# EAGLE library part ENC28J60 (library mylib)
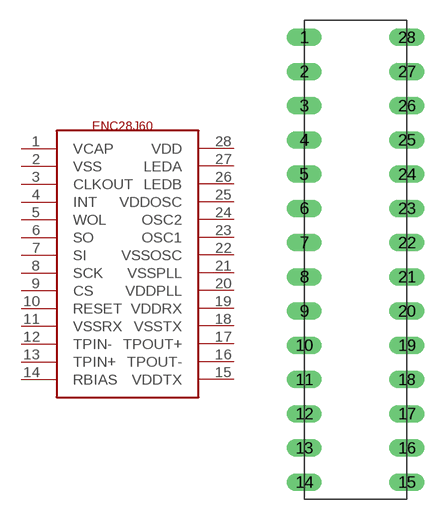
[diagram p1: symbol with the pads of ENJ28J60; footprint ENJ28J60]

Designator prefix -

## ENC28J60  [ENJ28J60]
1  VCAP
2  VSS
3  CLKOUT
4  INT
5  WOL
6  SO
7  SI
8  SCK
9  CS
10  RESET
11  VSSRX
12  TPIN-
13  TPIN+
14  RBIAS
15  VDDTX
16  TPOUT-
17  TPOUT+
18  VSSTX
19  VDDRX
20  VDDPLL
21  VSSPLL
22  VSSOSC
23  OSC1
24  OSC2
25  VDDOSC
26  LEDB
27  LEDA
28  VDD

## Footprint ENJ28J60 (pad centres in mm)
drill 0.8 long: 1 -5.08,8.89; 2 -5.08,6.35; 3 -5.08,3.81; 4 -5.08,1.27; 5 -5.08,-1.27; 6 -5.08,-3.81; 7 -5.08,-6.35; 8 -5.08,-8.89; 9 -5.08,-11.43; 10 -5.08,-13.97; 11 -5.08,-16.51; 12 -5.08,-19.05; 13 -5.08,-21.59; 14 -5.08,-24.13; 15 2.54,-24.13; 16 2.54,-21.59; 17 2.54,-19.05; 18 2.54,-16.51; 19 2.54,-13.97; 20 2.54,-11.43; 21 2.54,-8.89; 22 2.54,-6.35; 23 2.54,-3.81; 24 2.54,-1.27; 25 2.54,1.27; 26 2.54,3.81; 27 2.54,6.35; 28 2.54,8.89